# Altium footprint library LQW18AN.PcbLib: 1 footprints
Each footprint in its own frame and in the unit in brackets; x right, y up, seen from the top. Pads: shape width x height; smd on the part's side, far side on the other; paste and mask are expansions set on the pad; w line width, h text height; cw(c..) or ccw(c..) is an arc to the next point about the centre after c.
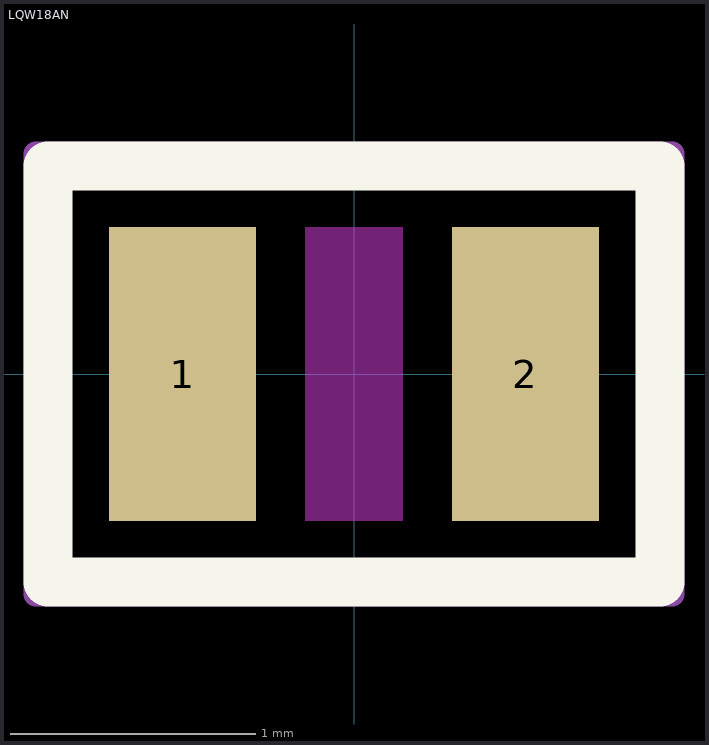
[diagram p0: the footprint, top view; thin cyan lines are the x and y axes]

## LQW18AN [mm]
pads (2):
  rect 0.6x1.2 smd: 1(-0.7,0) 2(0.7,0)
L1-Top Layer keep-out:
  rectangle: -0.2,-0.6 0.2,0.6
Top Overlay:
  lines w0.2: -1.25,-0.85 1.25,-0.85 1.25,0.85 -1.25,0.85 -1.25,-0.85
Top Courtyard:
  lines w0.1: -1.3,-0.9 1.3,-0.9 1.3,0.9 -1.3,0.9 -1.3,-0.9
3D body "LQW18AN68NG80D.stp": height 0.9, standoff 0, extent -0.829,-0.486 0.821,0.504